# Altium schematic symbol library VNS1NV04DPTR-E.SchLib: 1 symbol
Pins are listed as number, name and electrical type; pins without a type are passive.

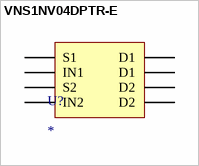
[diagram p0: symbol VNS1NV04DPTR-E]

## VNS1NV04DPTR-E
designator U?
pins: 1 S1 "ASD", 2 IN1 "ASD", 3 S2 "ASD", 4 IN2 "ASD", 5 D2 "ASD", 6 D2 "ASD", 7 D1 "ASD", 8 D1 "ASD"